# EAGLE library part NRF_PA_LNA (library NRF_PA_LNA_Module)
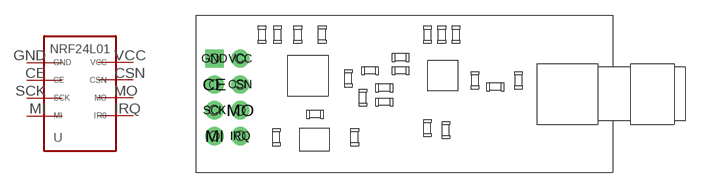
[diagram p0: symbol with the pads of NRF_PA_LNA; footprint NRF_PA_LNA]

Designator prefix -

## NRF_PA_LNA  [NRF_PA_LNA]
CE  CE
CSN  CSN
GND  GND
IRQ  IR0
MI  MI
MO  MO
SCK  SCK
VCC  VCC

## Footprint NRF_PA_LNA (pad centres in mm)
drill 0.9 pad 1.8: CE 0,5.08; CSN 2.54,5.08; IRQ 2.54,0; MI 0,0; MO 2.54,2.54; SCK 0,2.54; VCC 2.54,7.62
drill 0.9 pad 1.8 square: GND 0,7.62